# Altium schematic symbol library PTH04T240W.SchLib: 1 symbol
Pins are listed as number, name and electrical type; pins without a type are passive.

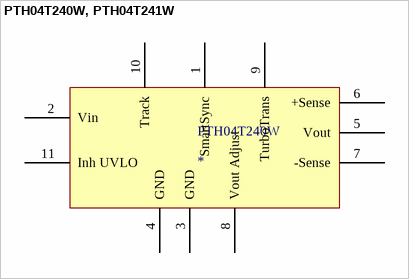
[diagram p0: symbol PTH04T240W, PTH04T241W]

## PTH04T240W, PTH04T241W
designator PTH04T240W
pins: 1 SmartSync, 2 Vin, 3 GND, 4 GND, 5 Vout, 6 +Sense, 7 -Sense, 8 Vout Adjust, 9 TurboTrans, 10 Track, 11 Inh UVLO